# Altium footprint library PcbLib.PcbLib: 24 footprints (part 1 of 2)
Each footprint in its own frame and in the unit in brackets; x right, y up, seen from the top. Pads: shape width x height; smd on the part's side, far side on the other; paste and mask are expansions set on the pad; w line width, h text height; cw(c..) or ccw(c..) is an arc to the next point about the centre after c.
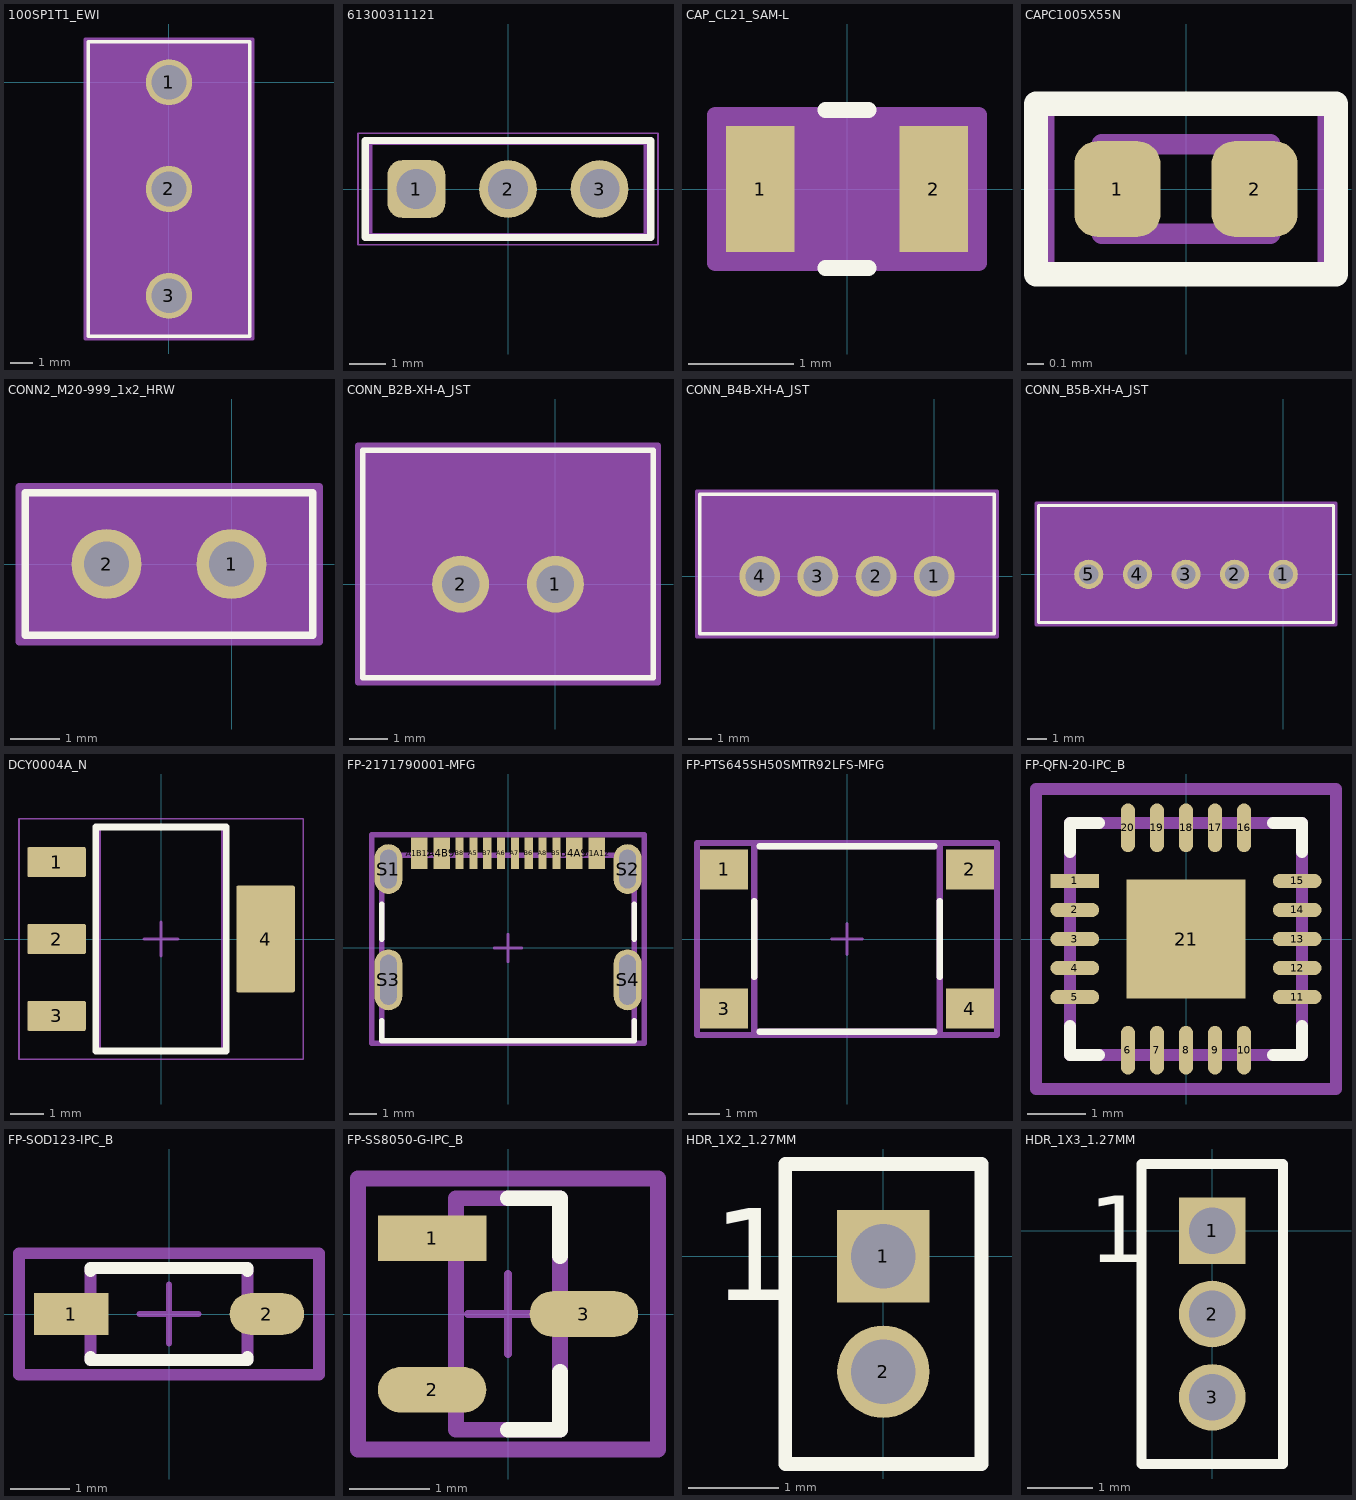
[diagram p0: the footprints below, top view; thin cyan lines are the x and y axes]

## 100SP1T1_EWI [mil]
pads (3):
  round 80 hole 60 paste-99999 mask+0: 1(0,0) 2(0,-185.04) 3(0,-370.08)
Top Overlay:
  lines w6: -140,-440.04 -140,69.96 140,69.96 140,-440.04 -140,-440.04
Top 3D Body:
  circle w20: c0,0 r15
  lines w1: -135,-435.04 -135,64.96 135,64.96 135,-435.04 -135,-435.04
Top Courtyard:
  region: 145,74.96 -145,74.96 -145,-445.04 145,-445.04
  lines w6: -145,-445.04 145,-445.04 145,74.96 -145,74.96 -145,-445.04
3D body "100SP1T1B4M2QE.STEP": height 1168.47, standoff -200.61, extent -135.04,-435.04 135.04,64.96

## 61300311121 [mm] "Pin Header, pitch 2.54 mm, THT, Vertical, single row, 3p"
height 8.54
pads (3):
  rrect50% 1.6x1.6 hole 1.1: 1(-2.54,0)
  round 1.6 hole 1.1: 2(0,0) 3(2.54,0)
Top Overlay:
  lines w0.2: -3.96,-1.345 -3.96,1.345 3.96,1.345 3.96,-1.345 -3.96,-1.345
Top Component Outline:
  lines w0.1: -3.81,-1.27 3.81,-1.27 3.81,1.27 -3.81,1.27 -3.81,-1.27
Top Courtyard:
  lines w0.05: -4.16,-1.545 4.16,-1.545 4.16,1.545 -4.16,1.545 -4.16,-1.545
Top Component Center:
  lines w0.05: -0.5,0 0.5,0 ; 0,-0.5 0,0.5

## CAP_CL21_SAM-L [mm]
pads (2):
  rect 0.65x1.2 smd paste+0 mask+0: 1(-0.825,0) 2(0.825,0)
Top Overlay:
  lines w0.152: -0.204,-0.752 0.204,-0.752 ; -0.204,0.752 0.204,0.752
Top 3D Body:
  circle w0.025: c-0.698,0 r0.076
  lines w0.025: -1,-0.625 -1,0.625 ; -1,-0.625 -0.5,-0.625 -0.5,0.625 -1,0.625 ; -1,-0.625 1,-0.625 ; -1,-0.625 -1,0.625 ; -1,0.625 1,0.625 ; 1,-0.625 0.5,-0.625 0.5,0.625 1,0.625 ; 1,-0.625 1,0.625 ; 1,-0.625 1,0.625
Top Courtyard:
  region: 1.252,-0.702 -1.252,-0.702 -1.252,0.702 1.252,0.702
  lines w0.152: -1.252,-0.702 -1.252,0.702 1.252,0.702 1.252,-0.702 -1.252,-0.702
3D body "CAP_CL21_SAM.step": height 1.35, standoff 0, extent -1,-0.625 1,0.625

## CAPC1005X55N [mm]
pads (2):
  rrect53% 0.54x0.6 smd: 1(-0.43,0) 2(0.43,0)
Top Overlay:
  lines w0.152: -0.94,-0.533 0.94,-0.533 0.94,0.533 -0.94,0.533 -0.94,-0.533
Top 3D Body:
  lines w0.127: -0.53,-0.28 0.53,-0.28 0.53,0.28 -0.53,0.28 -0.53,-0.28
Top Courtyard:
  lines w0.05: -0.85,-0.54 0.85,-0.54 0.85,0.54 -0.85,0.54 -0.85,-0.54
3D body "CL05A105KL5NRNC.STEP": height 0.55, standoff 0, extent -0.5,-0.25 0.5,0.25

## CONN2_M20-999_1x2_HRW [mil]
pads (2):
  round 56 / inner round 60 / far side round 56 hole 36 paste-99999 mask+0: 1(0,0) 2(-100,0)
Top Overlay:
  lines w6: -165,-57 -165,57 65,57 65,-57 -165,-57
Top 3D Body:
  lines w1: -160,-52 -160,52 60,52 60,-52 -160,-52
Top Courtyard:
  region: 70,62 -170,62 -170,-62 70,-62
  lines w6: -170,-62 70,-62 70,62 -170,62 -170,-62
3D body "M20-9990246.STEP": height 222.55, standoff -239.66, extent -150,-50 50,50

## CONN_B2B-XH-A_JST [mil]
pads (2):
  round 59 hole 39 paste-99999 mask+0: 1(0,0) 2(-98.43,0)
Top Overlay:
  lines w6: -199.88,-97.14 -199.88,138.86 101.46,138.86 101.46,-97.14 -199.88,-97.14
Top 3D Body:
  circle w20: c0,0 r15
  lines w1: -194.88,-92.14 -194.88,133.86 96.46,133.86 96.46,-92.14 -194.88,-92.14
Top Courtyard:
  region: 106.46,143.86 -204.88,143.86 -204.88,-102.14 106.46,-102.14
  lines w6: -204.88,-102.14 106.46,-102.14 106.46,143.86 -204.88,143.86 -204.88,-102.14
3D body "B2B-XH-A--3DModel-STEP-56544.STEP": height 275.59, standoff -133.86, extent -195.67,-90.19 95.67,136.19

## CONN_B4B-XH-A_JST [mil]
pads (4):
  round 69 hole 49 paste-99999 mask+0: 1(0,0) 2(-98.43,0) 3(-196.85,0) 4(-295.28,0)
Top Overlay:
  lines w6: -396.64,-97.14 -396.64,138.86 101.36,138.86 101.36,-97.14 -396.64,-97.14
Top 3D Body:
  circle w20: c0,0 r15
  lines w1: -391.64,-92.14 -391.64,133.86 96.36,133.86 96.36,-92.14 -391.64,-92.14
Top Courtyard:
  region: 106.36,143.86 -401.64,143.86 -401.64,-102.14 106.36,-102.14
  lines w6: -401.64,-102.14 106.36,-102.14 106.36,143.86 -401.64,143.86 -401.64,-102.14
3D body "B4B-XH-A.STEP": height 276.09, standoff -133.36, extent -394.09,-91.38 94.09,135

## CONN_B5B-XH-A_JST [mil]
pads (5):
  round 59 hole 39 paste-99999 mask+0: 1(0,0) 2(-98.43,0) 3(-196.85,0) 4(-295.28,0) 5(-393.7,0)
Top Overlay:
  lines w6: -495.35,-97.14 101.65,-97.14 101.65,138.86 -495.35,138.86 -495.35,-97.14
Top 3D Body:
  circle w20: c0,0 r15
  lines w1: -490.35,-92.14 96.65,-92.14 96.65,133.86 -490.35,133.86 -490.35,-92.14
Top Courtyard:
  region: 106.65,143.86 -500.35,143.86 -500.35,-102.14 106.65,-102.14
  lines w6: -500.35,-102.14 -500.35,143.86 106.65,143.86 106.65,-102.14 -500.35,-102.14
3D body "B5B-XH-A.STEP": height 276.09, standoff -133.36, extent -490.61,-92 96,134.38

## DCY0004A_N [mm] "SOT223, 4-Leads, Body 6.7x3.7mm, Pitch 2.3mm, IPC Medium Density"
height 1.8
pads (4):
  rrect11% 1.75x0.9 smd: 1(-3.125,2.3) 2(-3.125,0) 3(-3.125,-2.3)
  rrect6% 1.75x3.2 smd: 4(3.125,0)
Top Overlay:
  lines w0.2: -1.95,-3.35 1.95,-3.35 1.95,3.35 -1.95,3.35 -1.95,-3.35
Top 3D Body:
  lines w0.1: -1.85,-3.35 1.85,-3.35 1.85,3.35 -1.85,3.35 -1.85,-3.35
Top Courtyard:
  lines w0.05: -4.25,-3.6 4.25,-3.6 4.25,3.6 -4.25,3.6 -4.25,-3.6
  lines w0.1: -0.5,0 0.5,0 ; 0,-0.5 0,0.5
3D body "SOT-223.stp": height 1.62, standoff -0.03, extent -3.5,-3.25 3.5,3.25

## FP-2171790001-MFG [mm]
pads (16):
  rect 0.6x1.15 smd paste+0 mask+0: A1B12(-3.2,3.425) A4B9(-2.4,3.425) B1A12(3.2,3.425) B4A9(2.4,3.425)
  rect 0.3x1.15 smd paste+0 mask+0: A5(-1.25,3.425) A6(-0.25,3.425) A7(0.25,3.425) A8(1.25,3.425) B5(1.75,3.425) B6(0.75,3.425) B7(-0.75,3.425) B8(-1.75,3.425)
  rrect100% 1x1.8 hole 1.4 slot 0.6 at 0 deg paste-2539.97 mask+0: S1(-4.32,2.85) S2(4.32,2.85)
  rrect100% 1x2.2 hole 1.8 slot 0.6 at 0 deg paste-2539.97 mask+0: S3(-4.32,-1.15) S4(4.32,-1.15)
Top Overlay:
  lines w0.2: -4.57,-2.625 -4.57,-3.35 4.57,-3.35 4.57,-2.625 ; -4.57,0.325 -4.57,1.575 ; 4.57,0.325 4.57,1.575
Top Assembly:
  lines w0.2: -4.92,-3.45 -4.92,4.1 4.92,4.1 4.92,-3.45 -4.92,-3.45
Top 3D Body:
  lines w0.2: -4.57,-3.35 -4.57,3.35 4.57,3.35 4.57,-3.35 -4.57,-3.35
Top Courtyard:
  lines w0.2: -4.92,-3.45 -4.92,4.1 4.92,4.1 4.92,-3.45 -4.92,-3.45
Top Component Center:
  lines w0.1: -0.5,0 0.5,0 ; 0,-0.5 0,0.5
3D body "Conn_Molex_2171790001_eec.STEP": height 0.25, standoff 0, extent -4.92,-3.45 4.92,4.1

## FP-PTS645SH50SMTR92LFS-MFG [mm]
pads (4):
  rect 1.55x1.3 smd paste+0 mask+0: 1(-3.975,2.25) 2(3.975,2.25) 3(-3.975,-2.25) 4(3.975,-2.25)
Top Overlay:
  lines w0.2: -3,-1.225 -3,1.225 ; -2.825,-3 2.825,-3 ; -2.825,3 2.825,3 ; 3,-1.225 3,1.225
Top Assembly:
  lines w0.2: -4.85,-3.1 4.85,-3.1 4.85,3.1 -4.85,3.1 -4.85,-3.1
Top 3D Body:
  lines w0.2: -3,-3 3,-3 3,3 -3,3 -3,-3
Top Courtyard:
  lines w0.2: -4.85,-3.1 4.85,-3.1 4.85,3.1 -4.85,3.1 -4.85,-3.1
Top Component Center:
  lines w0.1: -0.5,0 0.5,0 ; 0,-0.5 0,0.5
3D body "User Library-PTS645SL43SMTR92-LFS.STEP": height 4.3, standoff 0, extent -4.5,-3 4.5,3

## FP-QFN-20-IPC_B [mm]
pads (21):
  rect 0.84x0.242 smd paste+0 mask+0: 1(-1.916,1)
  rrect100% 0.84x0.242 smd paste+0 mask+0: 2(-1.916,0.5) 3(-1.916,0) 4(-1.916,-0.5) 5(-1.916,-1) 11(1.916,-1) 12(1.916,-0.5) 13(1.916,0) 14(1.916,0.5) 15(1.916,1)
  rrect100% 0.242x0.84 smd paste+0 mask+0: 6(-1,-1.916) 7(-0.5,-1.916) 8(0,-1.916) 9(0.5,-1.916) 10(1,-1.916) 16(1,1.916) 17(0.5,1.916) 18(0,1.916) 19(-0.5,1.916) 20(-1,1.916)
  rect 2.05x2.05 smd paste-1000 mask+0: 21(0,0)
Top Overlay:
  lines w0.2: -2,-1.5 -2,-2 -1.5,-2 ; -2,1.5 -2,2 -1.5,2 ; 1.5,-2 2,-2 2,-1.5 ; 1.5,2 2,2 2,1.5
Top Paste:
  rectangle: -0.648,-0.648 0.648,0.648
Top Assembly:
  lines w0.2: -2.585,-2.585 2.585,-2.585 2.585,2.585 -2.585,2.585 -2.585,-2.585
Top 3D Body:
  lines w0.2: -2,-2 2,-2 2,2 -2,2 -2,-2
Top Courtyard:
  lines w0.2: -2.585,-2.585 2.585,-2.585 2.585,2.585 -2.585,2.585 -2.585,-2.585
Top Component Center:
  lines w0.1: -0.5,0 0.5,0 ; 0,-0.5 0,0.5
3D body "IC_FTDI_FT231XQ-R_eec.STEP": height 0.25, standoff 0, extent -2.585,-2.585 2.585,2.585

## FP-SOD123-IPC_B [mm]
pads (2):
  rect 1.257x0.702 smd paste+0 mask+0: 1(-1.65,0)
  rrect100% 1.257x0.702 smd paste+0 mask+0: 2(1.65,0)
Top Overlay:
  lines w0.2: -1.325,-0.726 -1.325,-0.775 1.325,-0.775 1.325,-0.726 ; -1.325,0.726 -1.325,0.775 1.325,0.775 1.325,0.726
Top Assembly:
  lines w0.2: -2.529,-1.025 2.529,-1.025 2.529,1.025 -2.529,1.025 -2.529,-1.025
Top 3D Body:
  lines w0.2: -1.325,-0.775 1.325,-0.775 1.325,0.775 -1.325,0.775 -1.325,-0.775
Top Courtyard:
  lines w0.2: -2.529,-1.025 2.529,-1.025 2.529,1.025 -2.529,1.025 -2.529,-1.025
Top Component Center:
  lines w0.1: -0.5,0 0.5,0 ; 0,-0.5 0,0.5
3D body "Diode_Diodes_Inc_MMSZ5245B-7-F_eec.STEP": height 0.25, standoff 0, extent -2.529,-1.025 2.529,1.025

## FP-SS8050-G-IPC_B [mm]
pads (3):
  rect 1.357x0.572 smd paste+0 mask+0: 1(-0.951,0.95)
  rrect100% 1.357x0.572 smd paste+0 mask+0: 2(-0.951,-0.95) 3(0.951,0)
Top Overlay:
  lines w0.2: 0,-1.45 0.65,-1.45 0.65,-0.725 ; 0,1.45 0.65,1.45 0.65,0.725
Top Assembly:
  lines w0.2: -1.879,-1.7 1.879,-1.7 1.879,1.7 -1.879,1.7 -1.879,-1.7
Top 3D Body:
  lines w0.2: -0.65,-1.45 0.65,-1.45 0.65,1.45 -0.65,1.45 -0.65,-1.45
Top Courtyard:
  lines w0.2: -1.879,-1.7 1.879,-1.7 1.879,1.7 -1.879,1.7 -1.879,-1.7
Top Component Center:
  lines w0.1: -0.5,0 0.5,0 ; 0,-0.5 0,0.5
3D body "Trans_Comchip_SS8050-G_eec.STEP": height 0.25, standoff 0, extent -1.879,-1.7 1.879,1.7

## HDR_1X2_1.27MM [mil]
pads (2):
  rect 40x40 hole 28: 1(0,0)
  round 40 hole 28: 2(0,-50)
Top Overlay:
  lines w6: -42.5,-90 42.5,-90 42.5,40 -42.5,40 -42.5,-90
  text "1" at -74,-19 h40
3D body "FTS-102-01-F-S.stp": height 154.5, standoff -89.5, extent -42.5,-75 42.5,25

## HDR_1X3_1.27MM [mil]
pads (3):
  rect 40x40 hole 28: 1(0,0)
  round 40 hole 28: 2(0,-50) 3(0,-100)
Top Overlay:
  lines w6: -42.5,-140 -42.5,40 42.5,40 42.5,-140 -42.5,-140
  text "1" at -74,-19 h40
3D body "FTS-103-01-F-S.stp": height 154.5, standoff -89.5, extent -42.5,-125 42.5,25